# Altium footprint library LegBoard.PcbLib: 21 footprints (part 2 of 2)
Each footprint in its own frame and in the unit in brackets; x right, y up, seen from the top. Pads: shape width x height; smd on the part's side, far side on the other; paste and mask are expansions set on the pad; w line width, h text height; cw(c..) or ccw(c..) is an arc to the next point about the centre after c.
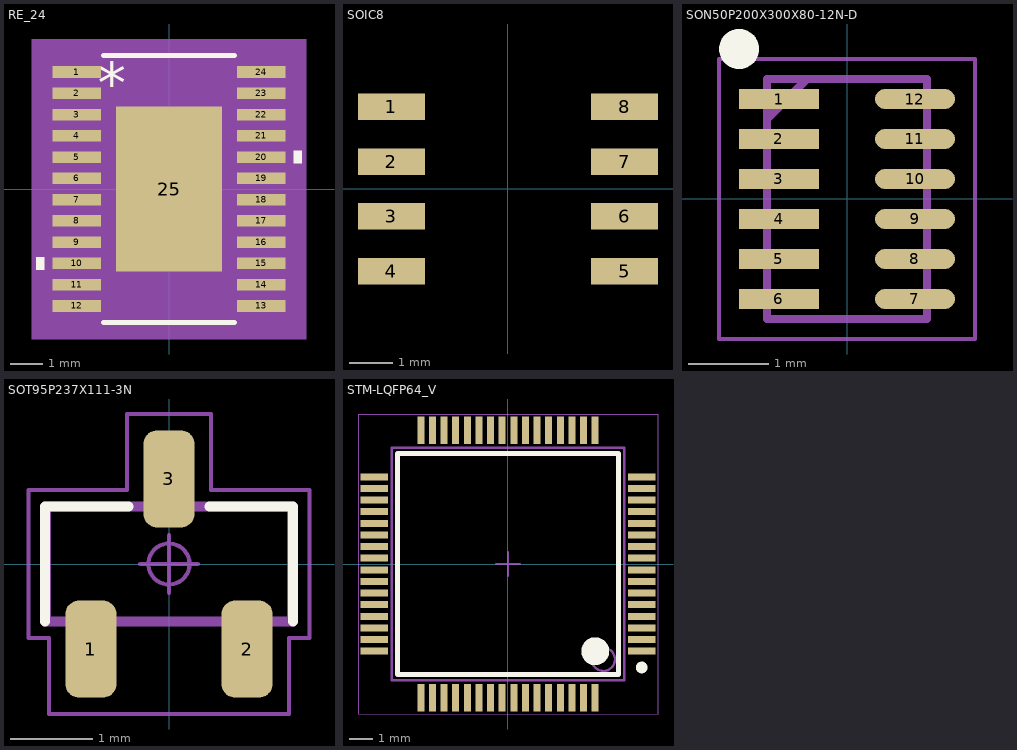
[diagram p1: the footprints below, top view; thin cyan lines are the x and y axes]

## RE_24 [mil]
pads (25):
  rect 58x14 smd: 1(-111,140.75) 2(-111,115.16) 3(-111,89.57) 4(-111,63.98) 5(-111,38.39) 6(-111,12.8) 7(-111,-12.8) 8(-111,-38.39) 9(-111,-63.98) 10(-111,-89.57) 11(-111,-115.16) 12(-111,-140.75) 13(111,-140.75) 14(111,-115.16) 15(111,-89.57) 16(111,-63.98) 17(111,-38.39) 18(111,-12.8) 19(111,12.8) 20(111,38.39) 21(111,63.98) 22(111,89.57) 23(111,115.16) 24(111,140.75)
  rect 128x198 smd: 25(0,0)
Top Overlay:
  region: -150,-82.07 -160,-82.07 -160,-97.07 -150,-97.07
  region: 150,45.89 160,45.89 160,30.89 150,30.89
  lines w6: -79,-160.5 79,-160.5 ; -79,160.5 79,160.5
  text "*" at -86,102.5 h50
Top Paste:
  region: -3.94,95.06 -60.06,95.06 -60.06,36.94 -3.94,36.94
  region: -3.94,29.06 -60.06,29.06 -60.06,-29.06 -3.94,-29.06
  region: -3.94,-36.94 -60.06,-36.94 -60.06,-95.06 -3.94,-95.06
  region: 60.06,95.06 3.94,95.06 3.94,36.94 60.06,36.94
  region: 60.06,29.06 3.94,29.06 3.94,-29.06 60.06,-29.06
  region: 60.06,-36.94 3.94,-36.94 3.94,-95.06 60.06,-95.06
Mechanical 5:
  region: 165,-180.5 -165,-180.5 -165,180.5 165,180.5
Mechanical 13:
  lines w0: -12,155.5 ccw(c0,155.5) 12,155.5
  lines w1: -126,-146.75 -126,-134.75 -88.5,-134.75 -88.5,-146.75 -126,-146.75 ; -126,-121.16 -126,-109.16 -88.5,-109.16 -88.5,-121.16 -126,-121.16 ; -126,-95.57 -126,-83.57 -88.5,-83.57 -88.5,-95.57 -126,-95.57 ; -126,-69.98 -126,-57.98 -88.5,-57.98 -88.5,-69.98 -126,-69.98 ; -126,-44.39 -126,-32.39 -88.5,-32.39 -88.5,-44.39 -126,-44.39 ; -126,-18.8 -126,-6.8 -88.5,-6.8 -88.5,-18.8 -126,-18.8 ; -126,6.8 -126,18.8 -88.5,18.8 -88.5,6.8 -126,6.8 ; -126,32.39 -126,44.39 -88.5,44.39 -88.5,32.39 -126,32.39 ; -126,57.98 -126,69.98 -88.5,69.98 -88.5,57.98 -126,57.98 ; -126,83.57 -126,95.57 -88.5,95.57 -88.5,83.57 -126,83.57 ; -126,109.16 -126,121.16 -88.5,121.16 -88.5,109.16 -126,109.16 ; -126,134.75 -126,146.75 -88.5,146.75 -88.5,134.75 -126,134.75 ; -88.5,-155.5 88.5,-155.5 88.5,155.5 -88.5,155.5 -88.5,-155.5 ; 88.5,-146.75 88.5,-134.75 126,-134.75 126,-146.75 88.5,-146.75 ; 88.5,-121.16 88.5,-109.16 126,-109.16 126,-121.16 88.5,-121.16 ; 88.5,-95.57 88.5,-83.57 126,-83.57 126,-95.57 88.5,-95.57 ; 88.5,-69.98 88.5,-57.98 126,-57.98 126,-69.98 88.5,-69.98 ; 88.5,-44.39 88.5,-32.39 126,-32.39 126,-44.39 88.5,-44.39 ; 88.5,-18.8 88.5,-6.8 126,-6.8 126,-18.8 88.5,-18.8 ; 88.5,6.8 88.5,18.8 126,18.8 126,6.8 88.5,6.8 ; 88.5,32.39 88.5,44.39 126,44.39 126,32.39 88.5,32.39 ; 88.5,57.98 88.5,69.98 126,69.98 126,57.98 88.5,57.98 ; 88.5,83.57 88.5,95.57 126,95.57 126,83.57 88.5,83.57 ; 88.5,109.16 88.5,121.16 126,121.16 126,109.16 88.5,109.16 ; 88.5,134.75 88.5,146.75 126,146.75 126,134.75 88.5,134.75
  text "*" at -86,102.5 h50
Mechanical 15:
  region: -98.5,-155.54 -150,-155.54 -150,155.54 -98.5,155.54 -98.5,165.5 98.5,165.5 98.5,155.54 150,155.54 150,-155.54 98.5,-155.54 98.5,-165.5 -98.5,-165.5
  lines w6: -150,-155.54 -150,155.54 -98.5,155.54 -98.5,165.5 98.5,165.5 98.5,155.54 150,155.54 150,-155.54 98.5,-155.54 98.5,-165.5 -98.5,-165.5 -98.5,-155.54 -150,-155.54
3D body: height 10, standoff 0, extent 0,0 10,10

## SOIC8 [mil]
pads (8):
  rect 61x24 smd: 1(-106.5,75) 2(-106.5,25) 3(-106.5,-25) 4(-106.5,-75) 5(106.5,-75) 6(106.5,-25) 7(106.5,25) 8(106.5,75)

## SON50P200X300X80-12N-D [mm]
pads (12):
  rect 1x0.25 smd: 1(-0.85,1.25) 2(-0.85,0.75) 3(-0.85,0.25) 4(-0.85,-0.25) 5(-0.85,-0.75) 6(-0.85,-1.25)
  oval 1x0.25 smd: 7(0.85,-1.25) 8(0.85,-0.75) 9(0.85,-0.25) 10(0.85,0.25) 11(0.85,0.75) 12(0.85,1.25)
Top Overlay:
  circle w0.25: c-1.35,1.875 r0.125
Mechanical 13:
  lines w0.1: -1,1 -0.5,1.5 ; -1,-1.5 -1,1.5 1,1.5 1,-1.5 -1,-1.5
Mechanical 15:
  lines w0.05: -1.6,-1.75 -1.6,1.75 1.6,1.75 1.6,-1.75 -1.6,-1.75
3D body "STM6601CM2DDM6F.stp": height 0.8, standoff 0, extent -1.05,-1.5 1.05,1.5

## SOT95P237X111-3N [mm] "Small Outline Transistor (SOT23), 0.95 mm pitch; 3 pin, 2.90 mm L X 1.30 mm W X 1.11 mm H body"
height 1.11
pads (3):
  rrect52% 0.62x1.18 smd paste-0.1 mask+0.1: 1(-0.95,-1.035) 2(0.95,-1.035) 3(0,1.035)
Top Overlay:
  lines w0.12: -1.51,-0.7 -1.51,0.7 -0.49,0.7 ; 0.49,0.7 1.51,0.7 1.51,-0.7
Mechanical 13:
  lines w0.025: -1.45,-0.65 1.45,-0.65 1.45,0.65 -1.45,0.65 -1.45,-0.65 ; -1.168,-1.185 -1.168,-0.76 -0.732,-0.76 -0.732,-1.185 -1.168,-1.185 ; -0.217,0.76 -0.218,1.185 0.217,1.185 0.217,0.76 -0.217,0.76 ; 0.732,-1.185 0.732,-0.76 1.168,-0.76 1.167,-1.185 0.732,-1.185
Mechanical 15:
  circle w0.05: c0,0 r0.25
  lines w0.05: -0.35,0 0.35,0 ; 0,-0.35 0,0.35 ; -1.71,-0.9 -1.46,-0.9 -1.46,-1.825 1.46,-1.825 1.46,-0.9 1.71,-0.9 1.71,0.9 0.51,0.9 0.51,1.825 -0.51,1.825 -0.51,0.9 -1.71,0.9 -1.71,-0.9
  lines w0.12: -1.51,-0.7 1.51,-0.7 1.51,0.7 -1.51,0.7 -1.51,-0.7
3D body "SOT95P237X111-3N.STEP": height 1.11, standoff 0, extent -1.39,-1.05 1.39,1.05

## STM-LQFP64_V [mm]
pads (64):
  rect 1.2x0.3 smd: 1(5.75,-3.75) 2(5.75,-3.25) 3(5.75,-2.75) 4(5.75,-2.25) 5(5.75,-1.75) 6(5.75,-1.25) 7(5.75,-0.75) 8(5.75,-0.25) 9(5.75,0.25) 10(5.75,0.75) 11(5.75,1.25) 12(5.75,1.75) 13(5.75,2.25) 14(5.75,2.75) 15(5.75,3.25) 16(5.75,3.75) 33(-5.75,3.75) 34(-5.75,3.25) 35(-5.75,2.75) 36(-5.75,2.25) 37(-5.75,1.75) 38(-5.75,1.25) 39(-5.75,0.75) 40(-5.75,0.25) 41(-5.75,-0.25) 42(-5.75,-0.75) 43(-5.75,-1.25) 44(-5.75,-1.75) 45(-5.75,-2.25) 46(-5.75,-2.75) 47(-5.75,-3.25) 48(-5.75,-3.75)
  rect 0.3x1.2 smd: 17(3.75,5.75) 18(3.25,5.75) 19(2.75,5.75) 20(2.25,5.75) 21(1.75,5.75) 22(1.25,5.75) 23(0.75,5.75) 24(0.25,5.75) 25(-0.25,5.75) 26(-0.75,5.75) 27(-1.25,5.75) 28(-1.75,5.75) 29(-2.25,5.75) 30(-2.75,5.75) 31(-3.25,5.75) 32(-3.75,5.75) 49(-3.75,-5.75) 50(-3.25,-5.75) 51(-2.75,-5.75) 52(-2.25,-5.75) 53(-1.75,-5.75) 54(-1.25,-5.75) 55(-0.75,-5.75) 56(-0.25,-5.75) 57(0.25,-5.75) 58(0.75,-5.75) 59(1.25,-5.75) 60(1.75,-5.75) 61(2.25,-5.75) 62(2.75,-5.75) 63(3.25,-5.75) 64(3.75,-5.75)
Top Overlay:
  circle w0.25: c5.75,-4.45 r0.125
  circle w0.6: c3.75,-3.75 r0.3
  lines w0.2: -4.75,-4.75 -4.75,4.75 4.75,4.75 4.75,-4.75 -4.75,-4.75
Mechanical 13:
  circle w0.1: c4.1,-4.1 r0.5
  lines w0.1: -5,-5 -5,5 5,5 5,-5 -5,-5
Mechanical 15:
  lines w0.05: -6.45,-6.45 -6.45,6.45 6.45,6.45 6.45,-6.45 -6.45,-6.45
  lines w0.1: -0.5,0 0.5,0 ; 0,-0.5 0,0.5
3D body: height 1.6, standoff 0.05, extent -5,-5 5,5